# Altium footprint library WS100.PcbLib: 58 footprints (part 4 of 4)
Each footprint in its own frame and in the unit in brackets; x right, y up, seen from the top. Pads: shape width x height; smd on the part's side, far side on the other; paste and mask are expansions set on the pad; w line width, h text height; cw(c..) or ccw(c..) is an arc to the next point about the centre after c.
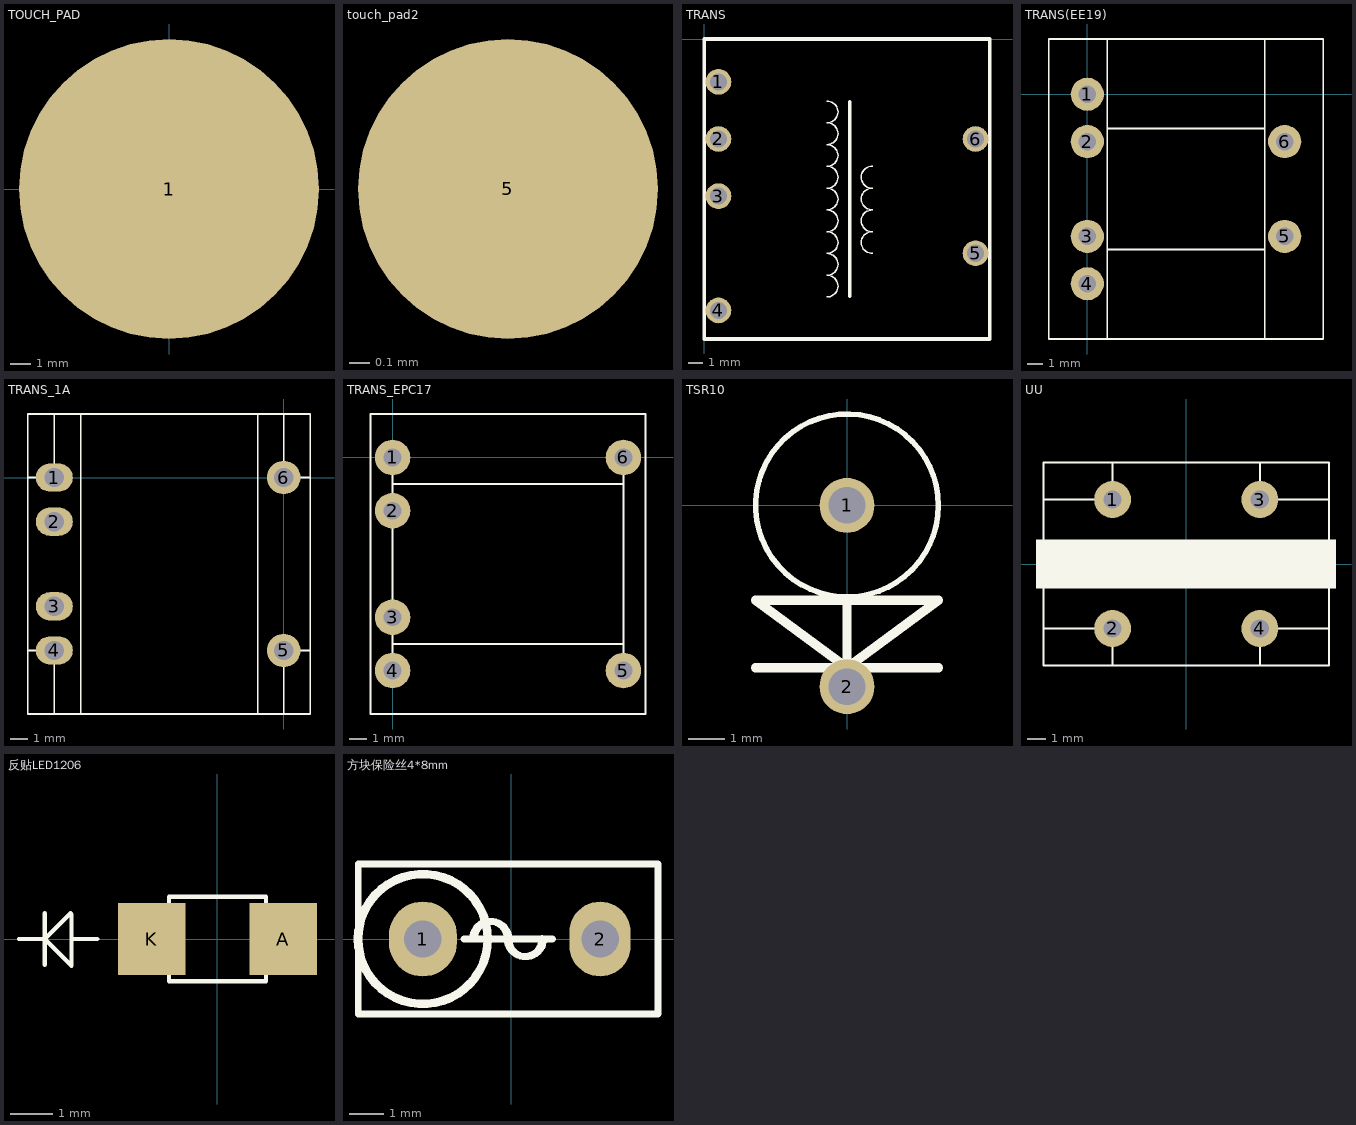
[diagram p3: the footprints below, top view; thin cyan lines are the x and y axes]

## TOUCH_PAD [mm]
pads (1):
  round 15 smd: 1(0,0)

## touch_pad2 [mm]
pads (1):
  round 1.5 smd mask+0: 5(1270.025,1270.864)

## TRANS [mm]
pads (6):
  round 1.8 hole 1.2: 1(1,-3) 2(1,-7) 3(1,-11) 4(1,-19) 5(19,-15) 6(19,-7)
Top Overlay:
  lines w0.1: 8.585,-18.059 ccw(c8.598,-17.285) 9.373,-17.297 ccw(c8.598,-17.31) 8.585,-16.535 ccw(c8.598,-15.761) 9.373,-15.773 ccw(c8.598,-15.786) 8.585,-15.011 ccw(c8.598,-14.237) 9.373,-14.249 ccw(c8.598,-14.262) 8.585,-13.487 ccw(c8.598,-12.713) 9.373,-12.725 ccw(c8.598,-12.738) 8.585,-11.963 ccw(c8.598,-11.189) 9.373,-11.201 ccw(c8.598,-11.214) 8.585,-10.439 ccw(c8.598,-9.665) 9.373,-9.677 ccw(c8.598,-9.69) 8.585,-8.915 ccw(c8.598,-8.141) 9.373,-8.153 ccw(c8.598,-8.166) 8.585,-7.391 ccw(c8.598,-6.617) 9.373,-6.629 ccw(c8.598,-6.642) 8.585,-5.867 ccw(c8.598,-5.093) 9.373,-5.105 ccw(c8.598,-5.118) 8.585,-4.343 ; 11.786,-15.011 cw(c11.773,-14.237) 10.998,-14.249 cw(c11.773,-14.262) 11.786,-13.487 cw(c11.773,-12.713) 10.998,-12.725 cw(c11.773,-12.738) 11.786,-11.963 cw(c11.773,-11.189) 10.998,-11.201 cw(c11.773,-11.214) 11.786,-10.439 cw(c11.773,-9.665) 10.998,-9.677 cw(c11.773,-9.69) 11.786,-8.915
  lines w0.254: 10.185,-18.009 10.185,-4.394 ; 0,-21 20,-21 20,0 0,0 0,-21

## TRANS(EE19) [mm]
pads (6):
  round 2.1 hole 1.1: 1(0,0) 2(0,-3) 3(0,-9) 4(0,-12) 5(12.5,-9) 6(12.5,-3)
Top Overlay:
  lines w0.1: 0,0 0.432,0 ; 1.27,-15.5 1.27,3.5 1.422,3.5 ; 1.27,-9.83 11.227,-9.83 ; 1.27,-2.17 11.227,-2.17 ; 11.23,-15.5 11.23,3.5 ; -2.45,-15.5 -2.45,3.5 0,3.5 14.95,3.5 14.95,-15.5 -2.45,-15.5

## TRANS_1A [mm]
pads (6):
  oval 2.1x1.6 hole 1.1: 1(-13,0) 2(-13,-2.5) 3(-13,-7.3) 4(-13,-9.8)
  round 1.9 hole 1.1: 5(0,-9.8) 6(0,0)
Top Overlay:
  lines w0.1: -11.506,-13.386 -11.506,3.6 -10.947,3.6 ; -1.575,3.6 -1.473,3.6 -1.473,-13.4 ; -14.5,-9.8 -14.5,-13.4 -13,-13.4 ; -14.5,-9.8 -14.5,0 ; -14.5,-9.8 -13,-9.8 -13,-13.4 ; -14.5,0 -14.5,3.6 -13,3.6 ; -14.5,0 -13,0 -13,3.6 ; -13,-13.4 0,-13.4 ; -13,3.6 0,3.6 ; 0,-13.4 1.5,-13.4 1.5,-9.8 ; 0,-13.4 0,-9.8 1.5,-9.8 ; 0,3.6 1.5,3.6 1.5,0 ; 0,3.6 0,0 1.5,0 ; 1.5,-9.8 1.5,0

## TRANS_EPC17 [mm]
pads (6):
  round 2 hole 1: 1(0,0) 2(0,-3) 3(0,-9) 4(0,-12) 5(13,-12) 6(13,0)
Top Overlay:
  lines w0.1: 0,-12 0,-9 ; 0,-1.5 13,-1.5 ; 0,0 0,-3 0,-10.5 13,-10.5 ; 13,-12 13,-10.5 ; 13,0 13,-1.5 ; 13,-10.5 13,-1.5 ; -1.25,-14.45 13,-14.45 14.25,-14.45 14.25,2.45 -1.25,2.45 -1.25,0 -1.25,-14.45

## TSR10 [mm]
pads (2):
  round 1.5 hole 1: 1(0,0) 2(0,-4.953)
Top Overlay:
  circle w0.15: c0,0 r2.5
  lines w0.254: -2.5,-4.438 -0.152,-4.438 0.652,-4.438 ; 2.5,-4.438 0,-4.438 ; 0,-4.438 -2.5,-2.591 0,-2.591 ; 0,-4.438 2.5,-2.591 0,-2.591 ; 0,-4.438 0,-2.591

## UU [mm] "UU"
pads (4):
  round 2 hole 1: 1(-4,3.5) 2(-4,-3.5) 3(4,3.5) 4(4,-3.5)
Top Overlay:
  rectangle: -8.153,-0.102 8.128,1.321
  rectangle: -8.153,-1.321 8.128,0.102
  lines w0.1: -7.75,-3.5 -4,-3.5 -4,-5.5 ; -7.75,-3.5 -7.75,-5.5 -4,-5.5 ; -7.75,-3.5 -7.75,3.5 ; -7.75,3.5 -4,3.5 -4,5.5 ; -7.75,3.5 -7.75,5.5 -4,5.5 ; -4,-5.5 4,-5.5 ; -4,5.5 4,5.5 ; 4,-5.5 4,-3.5 7.75,-3.5 ; 4,-5.5 7.75,-5.5 7.75,-3.5 ; 4,5.5 4,3.5 7.75,3.5 ; 4,5.5 7.75,5.5 7.75,3.5 ; 7.75,-3.5 7.75,3.5

## 反贴LED1206 [mm]
pads (2):
  rect 1.6x1.7 smd: A(1.556,0) K(-1.556,0)
Top Overlay:
  lines w0.1: -4.699,0 -4.089,0 ; -4.089,-0.61 -4.089,0 ; -4.089,0.61 -4.089,0 ; -3.454,0 -2.845,0 ; -4.089,0 -3.454,-0.635 -3.454,0.584 -3.48,0.61 -4.089,0 ; -1.15,-1 -1.15,0 -1.15,1 1.15,1 1.15,0 1.15,-1 -1.15,-1

## 方块保险丝4*8mm [mm]
pads (2):
  oval 2x2.2 hole 1.1: 1(-2.6,0)
  oval 1.8x2.2 hole 1.1: 2(2.6,0)
Top Overlay:
  circle w0.254: c-2.6,0 r1.905
  lines w0.2: -1.2,0 1,0 ; -1.14,0.012 cw(c-0.632,0.012) -0.124,0.012 ccw(c0.384,-0.004) 0.892,0.012 ; -1.092,0.004 cw(c-0.584,0.004) -0.076,0.004 ccw(c0.432,-0.012) 0.94,0.004 ; -4.5,-2.2 4.3,-2.2 4.3,2.2 -4.5,2.2 -4.5,-2.2
  lines w0.203: -1.4,0 1.2,0